# Altium integrated library 61300611121.IntLib: 1 symbol
Pins are listed as number, name and electrical type; pins without a type are passive.

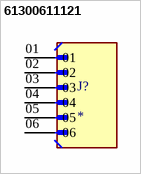
[diagram p0: symbol 61300611121]

## 61300611121
designator J?
Connector Header Through Hole 6 position 0.100 (2.54mm); MF: Wurth Electronics; MP: 61300611121; SnapEDA_Link: https://www.snapeda.com/parts/61300611121/Wurth+Electronics+Inc./view-part/?ref=snap; Package: None; Value: *; Check_prices: https://www.snapeda.com/parts/61300611121/Wurth+Electronics+Inc./view-part/?ref=eda
footprint WURTH_61300611121
pins: 01, 02, 03, 04, 05, 06